# Altium schematic symbol library amp_comparator.SchLib: 13 symbols
Pins are listed as number, name and electrical type; pins without a type are passive.

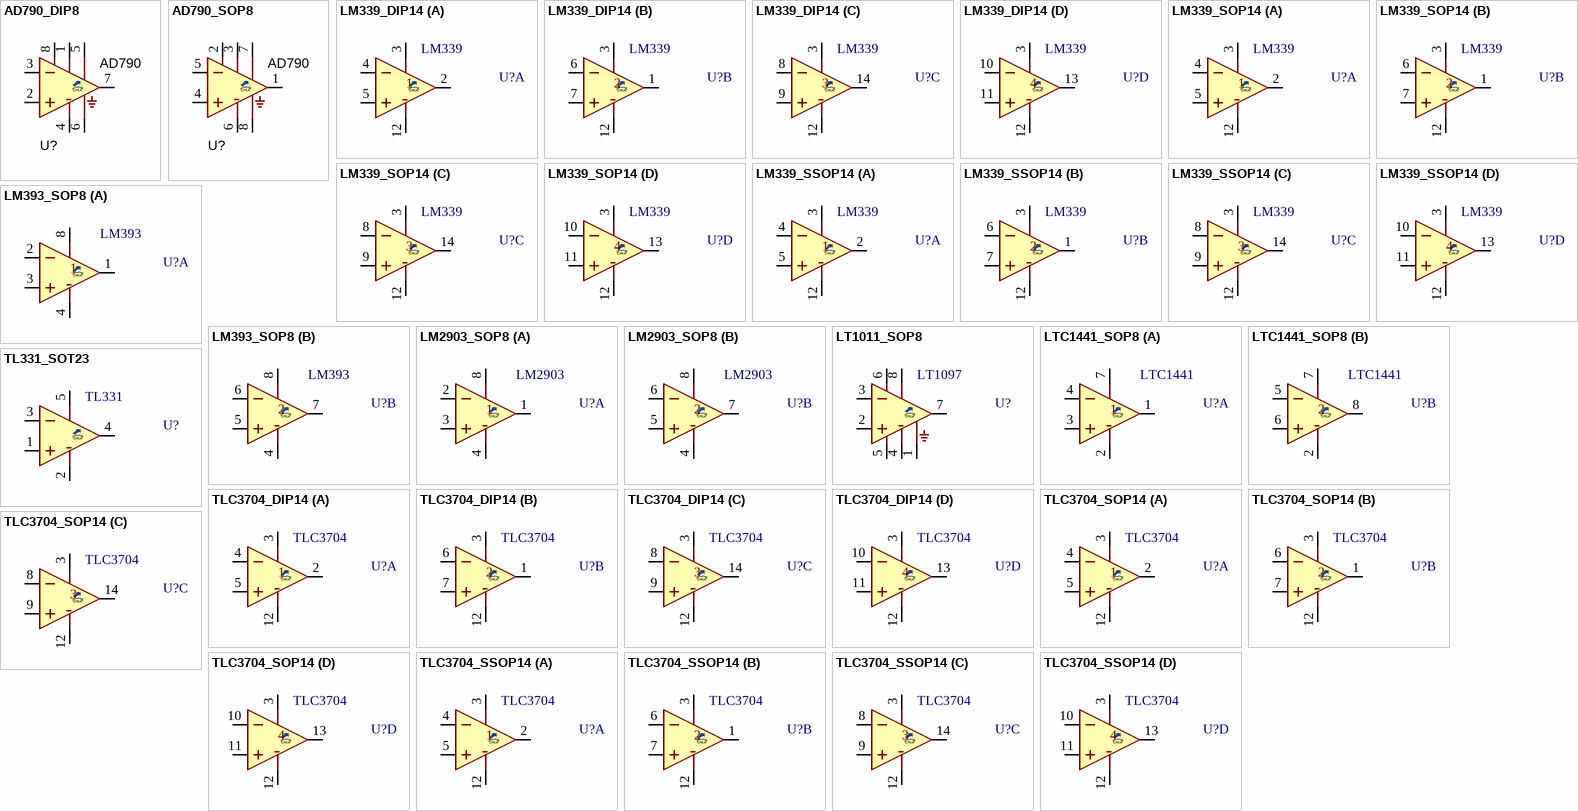
[diagram p0: symbols AD790_DIP8 to TLC3704_SSOP14]

## AD790_DIP8
designator U?, comment AD790
Comparator, Fast Prec; MANF: Analog Devices; MANF_P#: AD790JNZ; PARAM2: 2.7 V ~ 16 V, ±1.35 V ~ 8 V; VALUE: AD790
footprint DIP_8 (DIP, pitch 2.54mm, 300mil Width)
pins: 1 VS+, 2 +IN, 3 -IN, 4 VS-, 5 ~{Latch}, 6 GND (power), 7 OUT, 8 Vlogic (power)

## AD790_SOP8
designator U?, comment AD790
Comparator, Fast Prec; MANF: Analog Devices; MANF_P#: AD790JRZ; PARAM2: 2.7 V ~ 16 V, ±1.35 V ~ 8 V; VALUE: AD790
footprint SO_8
pins: 1 OUT, 2 Vlogic (power), 3 VS+, 4 +IN, 5 -IN, 6 VS-, 7 ~{Latch}, 8 GND (power)

## LM339_DIP14
designator U?, comment LM339
Comparator, Quad; MANF: Fairchild; MANF_P#: LM339N; PARAM2: +2~+36 V, ±1~±18V; VALUE: LM339
footprint DIP_14 (DIP, pitch 2.54mm, 300mil Width)
pins on every part: 3 V+, 12 V-
part A pins: 2 OUT, 4 IN-, 5 IN+
part B pins: 1 OUT, 6 IN-, 7 IN+
part C pins: 8 IN-, 9 IN+, 14 OUT
part D pins: 10 IN-, 11 IN+, 13 OUT

## LM339_SOP14
designator U?, comment LM339
Comparator, Quad; MANF: ST, Texas Instruments, ON; MANF_P#: LM339DT, LM339ADT, LM339MX, LM339AMX, LM339M, LM339AM, LM339DR2G; PARAM2: +2~+36 V, ±1~±18V; VALUE: LM339
footprint SO_14
pins on every part: 3 V+, 12 V-
part A pins: 2 OUT, 4 IN-, 5 IN+
part B pins: 1 OUT, 6 IN-, 7 IN+
part C pins: 8 IN-, 9 IN+, 14 OUT
part D pins: 10 IN-, 11 IN+, 13 OUT

## LM339_SSOP14
designator U?, comment LM339
Comparator, Quad; MANF: ST, Texas Instruments, ON; MANF_P#: LM339APW, LM339DTBR2G, LM339PW, LM339PT; PARAM2: +2~+36 V, ±1~±18V; VALUE: LM339
footprint SOG65_14 (PW TSSOP (TI), MO-153-AB (JEDEC), 14Lead, pitch: 0.65mm, 5x4.4x1.2mm)
pins on every part: 3 V+, 12 V-
part A pins: 2 OUT, 4 IN-, 5 IN+
part B pins: 1 OUT, 6 IN-, 7 IN+
part C pins: 8 IN-, 9 IN+, 14 OUT
part D pins: 10 IN-, 11 IN+, 13 OUT

## LM393_SOP8
designator U?, comment LM393
Comparator, Dual; MANF: ON, FAIRCHILD; MANF_P#: LM393D; PARAM2: 2~36V, ±1~18V; VALUE: LM393
footprint SO_8
part A pins: 1 OUT, 2 IN-, 3 IN+, 4 V-, 8 V+
part B pins: 4 V-, 5 IN+, 6 IN-, 7 OUT, 8 V+

## LM2903_SOP8
designator U?, comment LM2903
Comparator, Dual, 25nA BIAS CURRENT; MANF: ON, FAIRCHILD; MANF_P#: LM2903AQS; PARAM2: 2~36V, ±1~18V; VALUE: LM2903
footprint SO_8
part A pins: 1 OUT, 2 IN-, 3 IN+, 4 V-, 8 V+
part B pins: 4 V-, 5 IN+, 6 IN-, 7 OUT, 8 V+

## LT1011_SOP8
designator U?, comment LT1097
Comparator, Voltage; MANF: Linear Technology; MANF_P#: LT1011CS8#; PARAM2: 2.7~16 V, ±1.35~8V; VALUE: LT1097
footprint SO_8
pins: 1 GND, 2 IN+, 3 IN-, 4 V-, 5 BALANCE, 6 BALSTRB, 7 OUT, 8 V+

## LTC1441_SOP8
designator U?, comment LTC1441
Comparator, Dual, Ultralow Power, with Reference; MANF: Linear Technology; MANF_P#: LTC1441CS8, LTC1441IS8; PARAM2: 2.7~16V, ±1.35~8V; VALUE: LTC1441
footprint SO_8
part A pins: 1 OUT, 2 V-, 3 IN+, 4 IN-, 7 V+
part B pins: 2 V-, 5 IN-, 6 IN+, 7 V+, 8 OUT

## TL331_SOT23
designator U?, comment TL331
Comparator, Low input 25nA; MANF: ON; MANF_P#: TL331SN4T3G, TL331VSN4T3G; PARAM2: 2~36V/±1~±18V; PARAM: 25nA INPUT, -40~125oC; PRICE: 0.6$; VALUE: TL331
footprint SOT23_5 (SOT-23-5, SOT25, SOT-25, DBV(R-PDSO-G5), TSOT23-5, SC-74A, SOT23-5, S5-T (LINEAR), MO-178AA, MO-193AB(JEDEC), MF05A (NS), TSOP-6(ON), UJ-5 (AD), 0.95mm pitch 3X1.5mm)
pins: 1 IN+, 2 V-, 3 IN-, 4 OUT, 5 V+

## TLC3704_DIP14
designator U?, comment TLC3704
Comparator, Quad, Micropower Push-Pull Output; MANF: Texas Instruments; MANF_P#: TLC3704IN, TLC3704CN; PARAM2: +3~+16 V; VALUE: TLC3704
footprint DIP_14 (DIP, pitch 2.54mm, 300mil Width)
pins on every part: 3 V+, 12 V-
part A pins: 2 OUT, 4 IN-, 5 IN+
part B pins: 1 OUT, 6 IN-, 7 IN+
part C pins: 8 IN-, 9 IN+, 14 OUT
part D pins: 10 IN-, 11 IN+, 13 OUT

## TLC3704_SOP14
designator U?, comment TLC3704
Comparator, Quad, Micropower Push-Pull Output; MANF: Texas Instruments; MANF_P#: TLC3704ID, TLC3704CD; PARAM2: +3~+16 V; VALUE: TLC3704
footprint SO_14
pins on every part: 3 V+, 12 V-
part A pins: 2 OUT, 4 IN-, 5 IN+
part B pins: 1 OUT, 6 IN-, 7 IN+
part C pins: 8 IN-, 9 IN+, 14 OUT
part D pins: 10 IN-, 11 IN+, 13 OUT

## TLC3704_SSOP14
designator U?, comment TLC3704
Comparator, Quad, Micropower Push-Pull Output; MANF: Texas Instruments; MANF_P#: TLC3704IPW, TLC3704CPW; PARAM2: +3~+16V; VALUE: TLC3704
footprint SOG65_14 (PW TSSOP (TI), MO-153-AB (JEDEC), 14Lead, pitch: 0.65mm, 5x4.4x1.2mm)
pins on every part: 3 V+, 12 V-
part A pins: 2 OUT, 4 IN-, 5 IN+
part B pins: 1 OUT, 6 IN-, 7 IN+
part C pins: 8 IN-, 9 IN+, 14 OUT
part D pins: 10 IN-, 11 IN+, 13 OUT